# EAGLE library part USB3-TYPEA (library Roboracing)
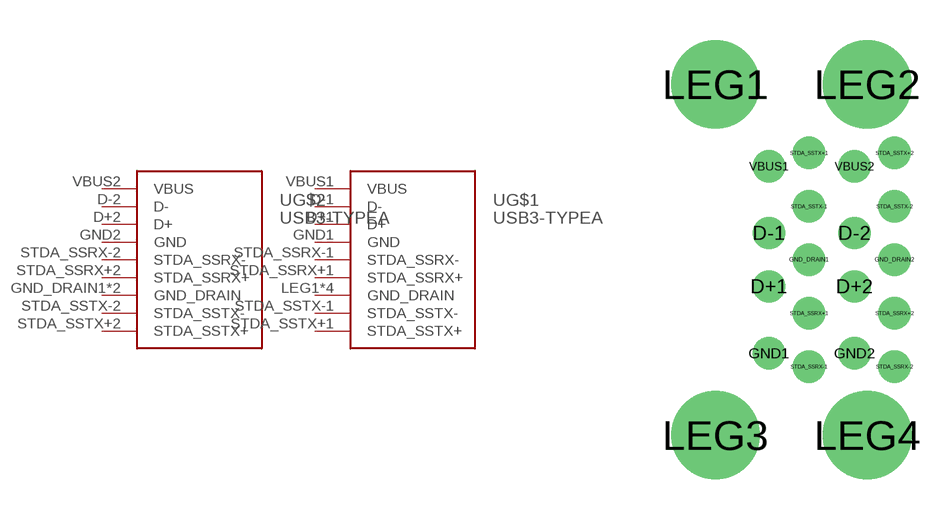
[diagram p11: symbol with the pads of 48406-0003; footprint 48406-0003]

Designator prefix -; gates G$1=USB3_TYPE_A G$2=USB3_TYPE_A

## USB3-TYPEA  [48406-0003]
D+1  G$1:D+
D+2  G$2:D+
D-1  G$1:D-
D-2  G$2:D-
GND1  G$1:GND
GND2  G$2:GND
GND_DRAIN1  G$2:GND_DRAIN
GND_DRAIN2  G$2:GND_DRAIN
LEG1  G$1:GND_DRAIN
LEG2  G$1:GND_DRAIN
LEG3  G$1:GND_DRAIN
LEG4  G$1:GND_DRAIN
STDA_SSRX+1  G$1:STDA_SSRX+
STDA_SSRX+2  G$2:STDA_SSRX+
STDA_SSRX-1  G$1:STDA_SSRX-
STDA_SSRX-2  G$2:STDA_SSRX-
STDA_SSTX+1  G$1:STDA_SSTX+
STDA_SSTX+2  G$2:STDA_SSTX+
STDA_SSTX-1  G$1:STDA_SSTX-
STDA_SSTX-2  G$2:STDA_SSTX-
VBUS1  G$1:VBUS
VBUS2  G$2:VBUS

## Footprint 48406-0003 (pad centres in mm)
drill 0.7: D+1 2,-7.57; D+2 5.2,-7.57; D-1 2,-5.57; D-2 5.2,-5.57; GND1 2,-10.07; GND2 5.2,-10.07; GND_DRAIN1 3.5,-6.57; GND_DRAIN2 6.7,-6.57; STDA_SSRX+1 3.5,-8.57; STDA_SSRX+2 6.7,-8.57; STDA_SSRX-1 3.5,-10.57; STDA_SSRX-2 6.7,-10.57; STDA_SSTX+1 3.5,-2.57; STDA_SSTX+2 6.7,-2.57; STDA_SSTX-1 3.5,-4.57; STDA_SSTX-2 6.7,-4.57; VBUS1 2,-3.07; VBUS2 5.2,-3.07
drill 2.3: LEG1 0,0; LEG2 5.68,0; LEG3 0,-13.14; LEG4 5.68,-13.14